# EAGLE library part LT1079SW#PBF (library RTD_lib)
Linear Technology LT1079SW#PBF, Quad Precision Op Amp, 200kHz, 5 V, 16-Pin Source: Datasheet <https://componentsearchengine.com/Datasheets/2/LT1079SW#PBF.pdf>
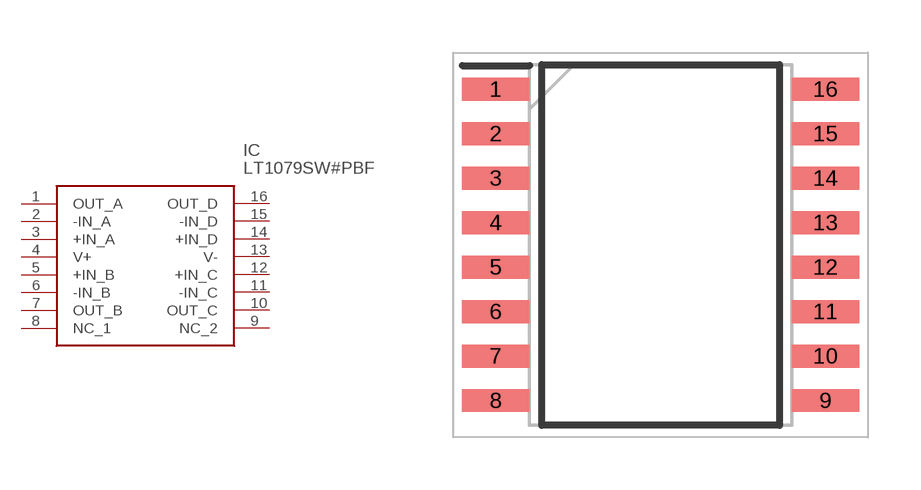
[diagram p0: symbol with the pads of SOIC127P1032X264-16N; footprint SOIC127P1032X264-16N]

Designator prefix IC

## LT1079SW#PBF (DESCRIPTION: Linear Technology LT1079SW#PBF, Quad Precision Op Amp, 200kHz, 5 V, 16-Pin; HEIGHT: 2.642mm; MANUFACTURER_NAME: Linear Technology; MANUFACTURER_PART_NUMBER: LT1079SW#PBF; MOUSER_PART_NUMBER: 584-LT1079SW#PBF; MOUSER_PRICE-STOCK: https://www.mouser.co.uk/ProductDetail/Analog-Devices-Linear-Technology/LT1079SWPBF?qs=ytflclh7QUUhPHjSTuo8Sw%3D%3D)  [SOIC127P1032X264-16N]
1  OUT_A
2  -IN_A
3  +IN_A
4  V+
5  +IN_B
6  -IN_B
7  OUT_B
8  NC_1
9  NC_2
10  OUT_C
11  -IN_C
12  +IN_C
13  V-
14  +IN_D
15  -IN_D
16  OUT_D

## Footprint SOIC127P1032X264-16N (pad centres in mm)
SW Package 16-Lead Plastic Small Outline
smd 1.928 x 0.65: 1 -4.711,4.445; 2 -4.711,3.175; 3 -4.711,1.905; 4 -4.711,0.635; 5 -4.711,-0.635; 6 -4.711,-1.905; 7 -4.711,-3.175; 8 -4.711,-4.445; 9 4.711,-4.445; 10 4.711,-3.175; 11 4.711,-1.905; 12 4.711,-0.635; 13 4.711,0.635; 14 4.711,1.905; 15 4.711,3.175; 16 4.711,4.445